# Altium footprint library CONN_USB.PcbLib: 17 footprints (part 1 of 2)
Each footprint in its own frame and in the unit in brackets; x right, y up, seen from the top. Pads: shape width x height; smd on the part's side, far side on the other; paste and mask are expansions set on the pad; w line width, h text height; cw(c..) or ccw(c..) is an arc to the next point about the centre after c.
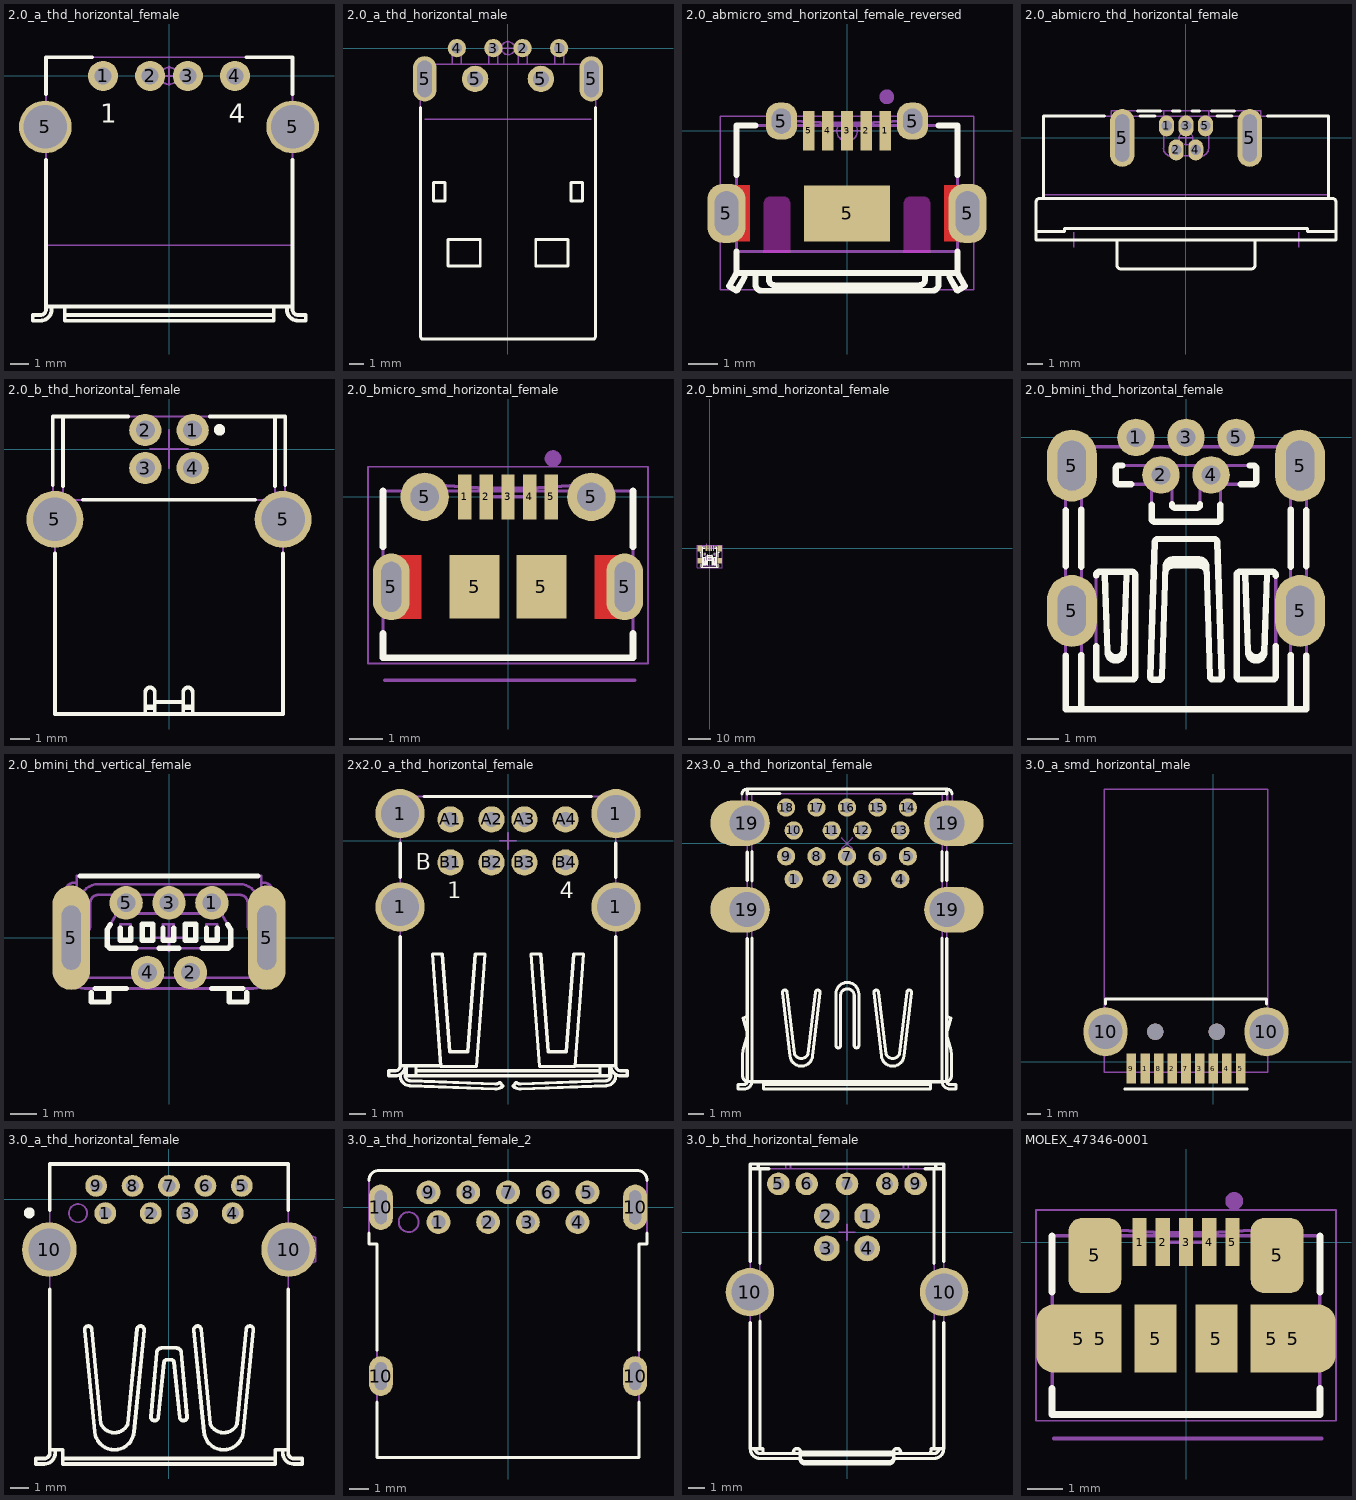
[diagram p0: the footprints below, top view; thin cyan lines are the x and y axes]

## 2.0_a_thd_horizontal_female [mm] "FCI_87520-0010BLF"
height 7.7
pads (6):
  round 1.6 hole 0.9: 1(-3.5,0) 2(-1,0) 3(1,0) 4(3.5,0)
  round 2.8 hole 2.3: 5(-6.57,-2.71) 5(6.57,-2.71)
Top Overlay:
  lines w0.2: -6.537,-12.26 6.563,-12.26 ; -6.537,-4.46 -6.537,-12.41 cw(c-6.837,-12.41) -6.837,-12.71 -7.237,-12.71 -7.237,-13.01 -6.837,-13.01 ccw(c-6.837,-12.41) -6.237,-12.41 -6.237,-12.26 ; -6.537,-0.96 -6.537,0.99 -4.075,0.99 ; -5.537,-12.71 5.563,-12.71 ; -5.537,-12.26 -5.537,-13.01 5.563,-13.01 5.563,-12.26 ; 4.101,0.99 6.563,0.99 6.563,-0.96 ; 6.263,-12.26 6.263,-12.41 ccw(c6.863,-12.41) 6.863,-13.01 7.263,-13.01 7.263,-12.71 6.863,-12.71 cw(c6.863,-12.41) 6.563,-12.41 6.563,-4.46
  text "1" at -3.66,-2.5 h1
  text "4" at 3.173,-2.5 h1
Mechanical 14:
  lines w0.1: -6.537,-12.26 6.563,-12.26 ; -6.237,-12.26 -6.237,-12.41 cw(c-6.837,-12.41) -6.837,-13.01 -7.237,-13.01 -7.237,-12.71 -6.837,-12.71 ccw(c-6.837,-12.41) -6.537,-12.41 -6.537,0.99 6.563,0.99 6.563,-12.41 ccw(c6.863,-12.41) 6.863,-12.71 7.263,-12.71 7.263,-13.01 6.863,-13.01 cw(c6.863,-12.41) 6.263,-12.41 6.263,-12.26 ; -5.537,-12.71 5.563,-12.71 ; -5.537,-12.26 -5.537,-13.01 5.563,-13.01 5.563,-12.26
  text "1" at -3.66,-2.5 h1
  text "4" at 3.173,-2.5 h1
  text ".Designator" at -5.032,-6.827 h1.5
Mechanical 15:
  circle w0.1: c0,0 r0.45
  lines w0.1: -6.537,-9 6.563,-9 ; -0.5,0 0,0 ; 0,-0.5 0,0 ; 0,0.5 0,0 ; 0.5,0 0,0
3D body "FCI_87520-0010BLF.stp": height 7.55, standoff -3.3, extent -7.9,-13.05 7.9,1.11

## 2.0_a_thd_horizontal_male [mm] "MOLEX_48037-0001"
height 4.6
pads (8):
  round 1.25 hole 0.7: 1(3.5,0) 2(1,0) 3(-1,0) 4(-3.5,0)
  oval 1.6x3.1 hole 1 slot 2.5 at 90 deg: 5(-5.7,-2.1) 5(5.7,-2.1)
  round 1.8 hole 1.1: 5(-2.25,-2.1) 5(2.25,-2.1)
Top Overlay:
  lines w0.2: -6,-4.063 -6,-19.727 -5.9,-19.9 5.9,-19.9 6,-19.727 6,-4.063 ; -5.1,-10.45 -5.1,-9.2 -4.3,-9.2 -4.3,-10.45 -5.1,-10.45 ; -4.1,-14.9 -4.1,-13.1 -1.9,-13.1 -1.9,-14.9 -4.1,-14.9 ; 1.9,-14.9 4.1,-14.9 4.1,-13.1 1.9,-13.1 1.9,-14.9 ; 4.3,-10.45 4.3,-9.2 5.1,-9.2 5.1,-10.45 4.3,-10.45
Mechanical 14:
  lines w0.1: -6,-3.1 -6.349,-3.1 -6.349,-1.1 6.349,-1.1 6.349,-3.1 6,-3.1 ; -6,-1.1 -6,-19.727 -5.9,-19.9 5.9,-19.9 6,-19.727 6,-1.1 ; -3.8,-1.11 -3.8,0.125 -3.2,0.125 -3.2,-1.1 ; -1.3,-1.1 -1.3,0.125 -0.7,0.125 -0.7,-1.1 ; 0.7,-1.1 0.7,0.125 1.3,0.125 1.3,-1.1 ; 3.2,-1.1 3.2,0.125 3.8,0.125 3.8,-1.1 ; -5.1,-10.45 -5.1,-9.2 -4.3,-9.2 -4.3,-10.45 -5.1,-10.45 ; -4.1,-14.9 -4.1,-13.1 -1.9,-13.1 -1.9,-14.9 -4.1,-14.9 ; 1.9,-14.9 4.1,-14.9 4.1,-13.1 1.9,-13.1 1.9,-14.9 ; 4.3,-10.45 4.3,-9.2 5.1,-9.2 5.1,-10.45 4.3,-10.45
  text ".Designator" at -4.232,-8.127 h1.5
Mechanical 15:
  circle w0.1: c0,0 r0.45
  lines w0.1: -5.7,-4.85 0,-4.85 5.7,-4.85 ; -0.5,0 0,0 ; 0,-0.5 0,0 ; 0,0.5 0,0 ; 0.5,0 0,0
3D body "MOLEX_48037-0001.stp": height 3.07, standoff -2.81, extent -6.173,-19.9 6.173,0.125

## 2.0_abmicro_smd_horizontal_female_reversed [mm] "HIROSE_ZX62RD-AB-5P8"
height 2.35
pads (10):
  rect 0.4x1.35 smd: 1(1.3,0) 2(0.65,0) 3(0,0) 4(-0.65,0) 5(-1.3,0)
  rrect80% 1.3x2 hole 0.8 slot 1.5 at 90 deg: 5(-4.088,-2.8) 5(4.088,-2.8)
  rrect80% 1.05x1.25 hole 0.65 slot 0.85 at 90 deg: 5(-2.225,0.325) 5(2.225,0.325)
  rect 2.9x1.9 smd: 5(0,-2.8)
Top Layer:
  region: -4.2,-1.85 -4.2,-3.75 -3.3,-3.75 -3.3,-1.85
  region: 4.2,-3.75 4.2,-1.85 3.3,-1.85 3.3,-3.75
Top Overlay:
  lines w0.2: -3.75,-4.1 -3.75,-4.825 cw(c-3.8,-4.825) -3.757,-4.85 -4,-5.272 -3.742,-5.425 -3.497,-5 ccw(c-3.8,-4.825) -3.45,-4.825 ; -3.75,-1.5 -3.75,0.175 -3.1,0.175 ; -3.74,-4.825 3.75,-4.825 ; -3.1,-4.825 -3.1,-5.225 ccw(c-2.9,-5.225) -2.9,-5.425 2.9,-5.425 ccw(c2.9,-5.225) 3.1,-5.225 3.1,-4.825 ; -2.65,-4.825 -2.65,-5.039 ccw(c-2.45,-5.039) -2.45,-5.239 2.45,-5.239 ccw(c2.45,-5.039) 2.65,-5.039 2.65,-4.825 ; 3.1,0.175 3.75,0.175 3.75,-1.5 ; 3.45,-4.825 ccw(c3.8,-4.825) 3.497,-5 3.742,-5.425 4,-5.272 3.757,-4.85 cw(c3.8,-4.825) 3.75,-4.825 ; 3.75,-4.1 3.75,-4.825
Keep-Out Layer:
  board cut-out: 1.95,-4.125 1.95,-2.45 1.95,-2.41 1.98,-2.337 2.037,-2.28 2.11,-2.25 2.15,-2.25 2.6,-2.25 2.64,-2.25 2.713,-2.28 2.77,-2.337 2.8,-2.41 2.8,-2.45 2.8,-4.125
  board cut-out: -2.8,-4.125 -2.8,-2.45 -2.8,-2.41 -2.77,-2.337 -2.713,-2.28 -2.64,-2.25 -2.6,-2.25 -2.15,-2.25 -2.11,-2.25 -2.037,-2.28 -1.98,-2.337 -1.95,-2.41 -1.95,-2.45 -1.95,-4.125
Keep-Out Layer:
  lines w0.05: -2.8,-4.125 -1.95,-4.125 -1.95,-2.45 ccw(c-2.15,-2.45) -2.15,-2.25 -2.6,-2.25 ccw(c-2.6,-2.45) -2.8,-2.45 -2.8,-4.125 ; 1.95,-4.125 1.95,-2.45 cw(c2.15,-2.45) 2.15,-2.25 2.6,-2.25 cw(c2.6,-2.45) 2.8,-2.45 2.8,-4.125 1.95,-4.125
Mechanical 14:
  circle w0.25: c1.35,1.15 r0.125
  lines w0.1: -3.75,-3.225 -4.325,-3.225 -4.325,-2.375 -3.75,-2.375 ; -3.74,-4.825 3.75,-4.825 ; -3.45,-4.825 cw(c-3.8,-4.825) -3.497,-5 -3.742,-5.425 -4,-5.272 -3.757,-4.85 ccw(c-3.8,-4.825) -3.75,-4.825 -3.75,0.175 3.75,0.175 3.75,-4.825 ; -3.1,-4.825 -3.1,-5.225 ccw(c-2.9,-5.225) -2.9,-5.425 2.9,-5.425 ccw(c2.9,-5.225) 3.1,-5.225 3.1,-4.825 ; -2.65,-4.825 -2.65,-5.039 ccw(c-2.45,-5.039) -2.45,-5.239 2.45,-5.239 ccw(c2.45,-5.039) 2.65,-5.039 2.65,-4.825 ; -2.45,0.175 -2.45,0.453 cw(c-2.291,-0.138) -2.3,0.474 -2.15,0.474 cw(c-2.159,-0.138) -2,0.453 -2,0.365 ccw(c-1.81,0.891) -1.845,0.333 -0.9,0.279 -0.9,0.272 ccw(c-0.741,0.862) -0.75,0.251 -0.6,0.251 ccw(c-0.606,0.659) -0.5,0.265 0.5,0.265 ccw(c0.606,0.659) 0.6,0.251 0.75,0.251 ccw(c0.741,0.862) 0.9,0.272 0.9,0.279 1.845,0.333 ccw(c1.81,0.891) 2,0.365 2,0.453 cw(c2.159,-0.138) 2.15,0.474 2.3,0.474 cw(c2.291,-0.138) 2.45,0.453 2.45,0.175 ; 3.45,-4.825 ccw(c3.8,-4.825) 3.497,-5 3.742,-5.425 4,-5.272 3.757,-4.85 cw(c3.8,-4.825) 3.75,-4.825 ; 3.75,-3.225 4.325,-3.225 4.325,-2.375 3.75,-2.375
  text ".Designator" at -2.6,-2.8 h1
Mechanical 15:
  circle w0.05: c0,0 r0.35
  lines w0.05: -0.5,0 0.5,0 ; 0,-0.46 0,0.46 ; -4.3,-5.4 4.3,-5.4 4.3,0.5 -4.3,0.5 -4.3,-5.4
  lines w0.1: -3.75,-4.1 0,-4.1 3.75,-4.1
3D body "HIROSE_ZX62RD-AB-5P8.stp": height 2.78, standoff -0.6, extent -4.325,-5.425 4.325,0.474

## 2.0_abmicro_thd_horizontal_female [mm] "AMPHENOL_MUSB-K152-30"
height 8.5
pads (7):
  oval 1x1.4 hole 0.7: 1(-1.3,0.8) 2(-0.65,-0.8) 3(0,0.8) 4(0.65,-0.8) 5(1.3,0.8)
  oval 1.65x3.85 hole 0.95 slot 3.15 at 90 deg: 5(-4.25,0) 5(4.25,0)
Top Overlay:
  lines w0.2: -10,-6.23 -8.1,-6.23 -8.1,-6.03 8.1,-6.03 8.1,-6.23 10,-6.23 ; -9.499,-4.03 -9.499,1.45 -5.424,1.45 ; -4.6,-6.79 -4.6,-8.48 ccw(c-4.35,-8.48) -4.35,-8.73 4.35,-8.73 ccw(c4.35,-8.48) 4.6,-8.48 4.6,-6.79 ; -3.245,1.8 -1.712,1.8 ; -3.076,1.45 -2.079,1.45 ; -0.888,1.8 -0.412,1.8 ; 0.412,1.8 0.888,1.8 ; 1.712,1.8 3.245,1.8 ; 2.079,1.45 3.076,1.45 ; 5.424,1.45 9.5,1.45 9.499,-4.03 ; -10,-6.79 10,-6.79 10,-4.28 ccw(c9.75,-4.28) 9.75,-4.03 -9.75,-4.03 ccw(c-9.75,-4.28) -10,-4.28 -10,-6.79
Mechanical 14:
  lines w0.1: -10,-6.23 -8.1,-6.23 -8.1,-6.03 8.1,-6.03 8.1,-6.23 10,-6.23 ; -9.499,-4.03 -9.499,1.45 9.5,1.45 9.499,-4.03 ; -4.975,1.45 -4.975,1.8 4.975,1.8 4.975,1.45 ; -4.6,-6.79 -4.6,-8.48 ccw(c-4.35,-8.48) -4.35,-8.73 4.35,-8.73 ccw(c4.35,-8.48) 4.6,-8.48 4.6,-6.79 ; -1.5,1.8 -1.5,-0.7 ccw(c-1,-0.7) -1,-1.2 1,-1.2 ccw(c1,-0.7) 1.5,-0.7 1.5,1.8 ; -10,-6.79 10,-6.79 10,-4.28 ccw(c9.75,-4.28) 9.75,-4.03 -9.75,-4.03 ccw(c-9.75,-4.28) -10,-4.28 -10,-6.79
  text ".Designator" at -5.032,-3.227 h1.5
Mechanical 15:
  circle w0.1: c0,0 r0.45
  lines w0.1: -9.499,-3.78 0,-3.78 9.5,-3.781 ; -7.5,-7.29 -7.5,-6.79 -7.5,-6.29 ; -0.5,0 0,0 ; 0,-0.5 0,0 ; 0,0.5 0,0 ; 0.5,0 0,0 ; 7.5,-7.29 7.5,-6.79 7.5,-6.29
3D body "AMPHENOL_MUSB-K152-30.stp": height 8.5, standoff -2.75, extent -10,-8.73 10,1.8

## 2.0_b_thd_horizontal_female [mm] "TYCO_292304-1"
height 11.5
pads (6):
  round 1.7 hole 1: 1(1.25,1) 2(-1.25,1) 3(-1.25,-1) 4(1.25,-1)
  round 3 hole 2.3: 5(-6.02,-3.71) 5(6.02,-3.71)
Top Overlay:
  circle w0.3: c2.667,1.016 r0.15
  lines w0.2: -6.13,-1.913 -6.13,1.72 -2.147,1.72 ; -6.018,-5.51 -6.018,-13.98 6.018,-13.98 6.018,-5.51 ; -5.6,-1.96 -5.6,1.72 ; -4.544,-2.68 4.544,-2.68 ; -1.25,-13.98 -1.25,-12.832 cw(c-1,-12.83) -0.75,-12.832 -0.75,-13.98 ; -1.25,-13.662 -0.75,-13.662 ; -1.25,-13.568 -0.75,-13.568 ; -0.75,-13.342 0.75,-13.342 ; 0.75,-13.98 0.75,-12.832 cw(c1,-12.83) 1.25,-12.832 1.25,-13.98 ; 0.75,-13.662 1.25,-13.662 ; 0.75,-13.568 1.25,-13.568 ; 2.147,1.72 6.13,1.72 6.13,-1.913 ; 5.6,-1.96 5.6,1.72
Mechanical 14:
  lines w0.1: -6.13,-4.608 -6.13,-4.81 -6.018,-5.057 ; -6.018,-4.619 -7.096,-4.511 ; -6.018,-2.781 -7.096,-2.889 ; -5.6,-2.68 -5.6,1.72 ; -5.6,-2.28 -6.13,-2.28 -6.13,1.72 6.13,1.72 6.13,-2.28 5.6,-2.28 ; -1.25,-13.98 -1.25,-12.832 cw(c-1,-12.83) -0.75,-12.832 -0.75,-13.98 ; -1.25,-13.662 -0.75,-13.662 ; -1.25,-13.568 -0.75,-13.568 ; -0.75,-13.342 0.75,-13.342 ; 0.75,-13.98 0.75,-12.832 cw(c1,-12.83) 1.25,-12.832 1.25,-13.98 ; 0.75,-13.662 1.25,-13.662 ; 0.75,-13.568 1.25,-13.568 ; 5.6,-2.68 5.6,1.72 ; 6.018,-5.057 6.13,-4.81 6.13,-4.608 ; 6.018,-4.619 7.096,-4.511 ; 6.018,-2.781 7.096,-2.889 ; -7.096,-4.511 -7.096,-2.889 ; -7.096,-4.511 -7.162,-4.5 -7.192,-4.486 -7.195,-4.479 -7.195,-2.921 -7.192,-2.914 -7.162,-2.9 -7.096,-2.889 ; 7.096,-4.511 7.096,-2.889 ; 7.096,-4.511 7.162,-4.5 7.192,-4.486 7.195,-4.479 7.195,-2.921 7.192,-2.914 7.162,-2.9 7.096,-2.889 ; -6.018,-13.98 -6.018,-2.68 6.018,-2.68 6.018,-13.98 -6.018,-13.98
  text ".Comment" at -2.3,-10 h0.7
  text ".Designator" at -3.732,-6.627 h1.5
Mechanical 15:
  lines w0.1: -1,0 0,0 ; 0,-1 0,0 ; 0,1 0,0 ; 1,0 0,0
3D body "TYCO_292304-1.stp": height 11.5, standoff -3.93, extent -7.195,-13.98 7.195,1.72

## 2.0_bmicro_smd_horizontal_female [mm] "MOLEX_1050171001"
height 2.35
pads (11):
  rect 0.4x1.35 smd: 1(-1.3,0) 2(-0.65,0) 3(0,0) 4(0.65,0) 5(1.3,0)
  oval 1.1x2 hole 0.6 slot 1.5 at 90 deg: 5(-3.5,-2.7) 5(3.5,-2.7)
  round 1.45 hole 0.85: 5(-2.5,0) 5(2.5,0)
  rect 1.5x1.9 smd: 5(-1,-2.7) 5(1,-2.7)
Top Layer:
  region: 3.5,-3.65 3.5,-1.75 2.6,-1.75 2.6,-3.65
  region: -3.5,-3.65 -3.5,-1.75 -2.6,-1.75 -2.6,-3.65
Top Overlay:
  lines w0.2: -3.75,-4.825 -3.75,-4.1 ; -3.75,-1.5 -3.75,0.175 ; -3.74,-4.825 3.75,-4.825 3.75,-4.1 ; 3.75,-1.5 3.75,0.175
Mechanical 14:
  circle w0.25: c1.35,1.15 r0.125
  lines w0.1: -3.75,-4.825 -3.75,0.175 3.75,0.175 3.75,-4.825 -3.74,-4.825 ; -2.45,0.175 -2.45,0.453 cw(c-2.291,-0.138) -2.3,0.474 -2.15,0.474 cw(c-2.159,-0.138) -2,0.453 -2,0.365 ccw(c-1.81,0.891) -1.845,0.333 -0.9,0.279 -0.9,0.272 ccw(c-0.741,0.862) -0.75,0.251 -0.6,0.251 ccw(c-0.606,0.659) -0.5,0.265 0.5,0.265 ccw(c0.606,0.659) 0.6,0.251 0.75,0.251 ccw(c0.741,0.862) 0.9,0.272 0.9,0.279 1.845,0.333 ccw(c1.81,0.891) 2,0.365 2,0.453 cw(c2.159,-0.138) 2.15,0.474 2.3,0.474 cw(c2.291,-0.138) 2.45,0.453 2.45,0.175
  text ".Designator" at -1,-2.4 h1
Mechanical 15:
  lines w0.05: -4.2,-5 -4.2,0.9 4.2,0.9 4.2,-5 -4.2,-5
  lines w0.1: -3.7,-5.5 3.8,-5.5 ; -0.5,0 0,0 ; 0,-0.5 0,0 ; 0,0.5 0,0 ; 0.5,0 0,0
3D body "1050171001.stp": height 2.68, standoff -0.63, extent -3.75,-4.8 3.75,0.2

## 2.0_bmini_smd_horizontal_female [mm] "TYCO_1734035-1"
height 3.95
pads (11):
  rect 0.5x2.3 smd: 1(-1.575,0) 2(-0.8,0) 3(0,0) 4(0.8,0) 5(1.6,0)
  rect 2x2.5 smd: 5(-4.45,-5.6) 5(-4.45,-0.1) 5(4.45,-5.6) 5(4.45,-0.1)
  round 0.5 hole 0.9 unplated mask+0.2: MTG1(-2.2,-2.6) MTG2(2.2,-2.6)
Top Overlay:
  rectangle: -4.445,-2.007 -3.759,-1.549
  region: 4.445,-1.549 3.759,-1.549 3.759,-2.007 4.445,-2.007
  lines w0.2: -3.85,-7.15 -3.85,-8.5 3.85,-8.5 3.85,-7.15 ; -3.85,-4.05 -3.85,-1.65 ; -3.15,-8.5 -3.15,0.7 -2.15,0.7 ; -3.15,0 -2.15,0 ; -2.65,-6.965 -2.65,-4.05 ; -2.65,-6.591 -2.05,-6.591 ; -2.65,-5.968 -2.05,-5.968 ; -2.633,-7.45 -2.633,-6.965 -2.05,-6.965 -2.05,-4.05 ; -0.895,-5.382 0.895,-5.382 ; -0.831,-4.118 0.831,-4.118 ; 2.05,-6.591 2.65,-6.591 ; 2.05,-5.968 2.65,-5.968 ; 2.05,-4.05 2.05,-6.965 2.633,-6.965 2.633,-7.45 ; 2.15,0 3.15,0 ; 2.15,0.7 3.15,0.7 3.15,-8.5 ; 2.65,-6.965 2.65,-4.05 ; 3.85,-4.05 3.85,-1.65 ; -2.95,-7.25 ccw(c-2.75,-7.25) -2.75,-7.45 -1.95,-7.45 ccw(c-1.95,-7.25) -1.75,-7.25 -1.75,-4.2 ccw(c-1.9,-4.2) -1.9,-4.05 -2.8,-4.05 ccw(c-2.8,-4.2) -2.95,-4.2 -2.95,-7.25 ; -1.293,-7.292 ccw(c-1.143,-7.3) -1.143,-7.45 -1,-7.45 -0.796,-3.412 0.796,-3.412 1,-7.45 1.143,-7.45 ccw(c1.143,-7.3) 1.293,-7.292 1.092,-3.335 ccw(c0.792,-3.35) 0.792,-3.05 -0.792,-3.05 ccw(c-0.792,-3.35) -1.092,-3.335 -1.293,-7.292 ; 1.75,-7.25 ccw(c1.95,-7.25) 1.95,-7.45 2.75,-7.45 ccw(c2.75,-7.25) 2.95,-7.25 2.95,-4.2 ccw(c2.8,-4.2) 2.8,-4.05 1.9,-4.05 ccw(c1.9,-4.2) 1.75,-4.2 1.75,-7.25
  lines w0.3: -2.261,-7.391 -2.261,-7.061 ; 2.261,-7.391 2.261,-7.061
  lines w0.35: -0.787,-4.736 0.787,-4.736
Mechanical 14:
  circle w0.1: c-1.525,1.7 r0.125
  lines w0.1: -4.95,0.7 4.95,0.7 ; -4.35,-1.7 -3.85,-1.7 ; -4.35,0 -4.35,-1.9 -3.85,-1.9 ; -3.15,-8.5 -3.15,0.7 ccw(c-3.15,0) -3.85,0 ; -2.933,-7.326 -2.933,-6.7 ; -2.65,-6.591 -2.05,-6.591 ; -2.65,-5.968 -2.05,-5.968 ; -2.65,-4.05 -2.65,-6.965 -2.05,-6.965 -2.05,-4.05 ; -2.633,-7.45 -2.633,-6.965 ; -2.3,-7.45 -2.3,-6.965 ; -2.213,-7.45 -2.213,-6.965 ; -1,-7.45 -1.143,-7.45 cw(c-1.143,-7.3) -1.293,-7.292 -1.092,-3.335 cw(c-0.792,-3.35) -0.792,-3.05 0.792,-3.05 ; -0.895,-5.382 0.895,-5.382 ; -0.868,-4.84 0.868,-4.84 ; -0.859,-4.66 0.859,-4.66 ; 0.796,-3.412 -0.796,-3.412 ccw(c63.84,-7.028) -0.831,-4.118 0.831,-4.118 ; 2.05,-6.591 2.65,-6.591 ; 2.05,-5.968 2.65,-5.968 ; 2.05,-4.05 2.05,-6.965 2.65,-6.965 2.65,-4.05 ; 2.213,-7.45 2.213,-6.965 ; 2.3,-7.45 2.3,-6.965 ; 2.633,-7.45 2.633,-6.965 ; 2.933,-7.326 2.933,-6.7 ; 3.15,-8.5 3.15,0.7 cw(c3.15,0) 3.85,0 ; 4.35,-1.9 4.35,0 ; -3.85,0 -3.85,-8.5 3.85,-8.5 3.85,0 ; -3.85,0 3.85,0 ; -2.95,-7.25 ccw(c-2.75,-7.25) -2.75,-7.45 -1.95,-7.45 ccw(c-1.95,-7.25) -1.75,-7.25 -1.75,-4.2 ccw(c-1.9,-4.2) -1.9,-4.05 -2.8,-4.05 ccw(c-2.8,-4.2) -2.95,-4.2 -2.95,-7.25 ; 1.75,-7.25 ccw(c1.95,-7.25) 1.95,-7.45 2.75,-7.45 ccw(c2.75,-7.25) 2.95,-7.25 2.95,-4.2 ccw(c2.8,-4.2) 2.8,-4.05 1.9,-4.05 ccw(c1.9,-4.2) 1.75,-4.2 1.75,-7.25
  text ".Comment" at -2.3,-5.3 h0.7
  text ".Designator" at -2.8,-2.2 h1
Mechanical 15:
  circle w0.1: c0,0 r0.2
  circle w0.1: c-2.2,-2.6 r0.45
  circle w0.1: c2.2,-2.6 r0.45
  lines w0.05: -5.7,-8.75 5.7,-8.75 5.7,1.4 -5.7,1.4 -5.7,-8.75
  lines w0.1: -4.45,-7.85 0,-7.85 4.45,-7.85 ; -2.7,-2.6 -2.2,-2.6 ; -2.2,-3.1 -2.2,-2.6 ; -2.2,-2.1 -2.2,-2.6 ; -1.7,-2.6 -2.2,-2.6 ; -0.5,0 0,0 ; 0,-0.5 0,0 ; 0,0.5 0,0 ; 0.5,0 0,0 ; 1.7,-2.6 2.2,-2.6 ; 2.2,-3.1 2.2,-2.6 ; 2.2,-2.1 2.2,-2.6 ; 2.7,-2.6 2.2,-2.6
3D body "TYCO_1734035-1.stp": height 4.14, standoff -0.95, extent -4.95,-8.5 4.95,0.7

## 2.0_bmini_thd_horizontal_female [mm] "WURTH_651005136521"
height 3.9
pads (9):
  round 1.2 hole 0.6: 1(-1.6,0) 2(-0.8,-1.2) 3(0,0) 4(0.8,-1.2) 5(1.6,0)
  oval 1.6x2.3 hole 0.9 slot 1.6 at 90 deg: 5(-3.65,-5.55) 5(-3.65,-0.9) 5(3.65,-5.55) 5(3.65,-0.9)
Top Overlay:
  lines w0.2: -3.85,-6.982 -3.85,-8.7 3.85,-8.7 3.85,-6.982 ; -3.85,-4.118 -3.85,-2.332 ; -3.35,-8.7 -3.35,-6.958 ; -3.35,-4.142 -3.35,-2.308 ; -2.875,-6.681 -2.875,-7.65 ccw(c-2.775,-7.65) -2.775,-7.75 -1.725,-7.75 ccw(c-1.725,-7.65) -1.625,-7.65 -1.625,-4.4 ccw(c-1.725,-4.4) -1.725,-4.3 -2.775,-4.3 ccw(c-2.775,-4.4) -2.875,-4.4 -2.875,-4.419 ; -2.694,-4.3 cw(c-2.694,-4.396) -2.597,-4.396 -2.509,-6.881 ccw(c-2.25,-6.881) -1.991,-6.881 -1.904,-4.396 ; -2.513,-6.771 ccw(c-2.25,-6.769) -1.987,-6.769 ; -2.036,-0.9 -2.15,-0.9 ccw(c-2.15,-1) -2.25,-1 -2.25,-1.4 ccw(c-2.15,-1.4) -2.15,-1.5 -1.754,-1.5 ; -1.904,-4.403 cw(c-1.801,-4.403) -1.801,-4.3 ; -1.1,-2.154 -1.1,-2.6 ccw(c-1,-2.6) -1,-2.7 1,-2.7 ccw(c1,-2.6) 1.1,-2.6 1.1,-2.154 ; -0.661,-4.328 cw(c-0.425,-4.336) -0.425,-4.1 0.425,-4.1 cw(c0.425,-4.336) 0.661,-4.328 ; -0.45,-2.137 -0.45,-2.15 ccw(c-0.35,-2.15) -0.35,-2.25 0.35,-2.25 ccw(c0.35,-2.15) 0.45,-2.15 0.45,-2.137 ; 1.754,-1.5 2.15,-1.5 ccw(c2.15,-1.4) 2.25,-1.4 2.25,-1 ccw(c2.15,-1) 2.15,-0.9 2.036,-0.9 ; 1.802,-4.3 cw(c1.802,-4.396) 1.898,-4.396 1.987,-6.881 ccw(c2.246,-6.881) 2.504,-6.881 2.592,-4.396 ; 1.983,-6.771 ccw(c2.246,-6.769) 2.508,-6.769 ; 2.591,-4.403 cw(c2.695,-4.403) 2.695,-4.3 ; 2.871,-6.676 2.871,-7.65 cw(c2.771,-7.65) 2.771,-7.75 1.721,-7.75 cw(c1.721,-7.65) 1.621,-7.65 1.621,-4.4 cw(c1.721,-4.4) 1.721,-4.3 2.771,-4.3 cw(c2.771,-4.4) 2.871,-4.4 2.871,-4.424 ; 3.35,-8.7 3.35,-6.958 ; 3.35,-4.142 3.35,-2.308 ; 3.85,-4.118 3.85,-2.332 ; -1.147,-7.653 ccw(c-1.047,-7.657) -1.047,-7.757 -0.872,-7.757 ccw(c-0.872,-7.657) -0.772,-7.66 -0.654,-4.129 cw(c-0.418,-4.137) -0.418,-3.901 0.418,-3.901 cw(c0.418,-4.137) 0.654,-4.129 0.772,-7.653 ccw(c0.872,-7.65) 0.872,-7.75 1.047,-7.75 ccw(c1.047,-7.65) 1.147,-7.647 0.999,-3.347 ccw(c0.9,-3.35) 0.9,-3.25 -0.9,-3.25 ccw(c-0.9,-3.35) -0.999,-3.347 -1.147,-7.653
Mechanical 14:
  lines w0.1: -3.85,-5.955 cw(c-3.675,-5.595) -4.075,-5.595 -4.075,-5.505 cw(c-3.675,-5.505) -3.85,-5.145 ; -3.85,-1.305 cw(c-3.675,-0.945) -4.075,-0.945 -4.075,-0.855 cw(c-3.675,-0.855) -3.85,-0.495 ; -3.35,-8.7 -3.35,-0.3 ; -2.694,-4.3 cw(c-2.694,-4.396) -2.597,-4.396 -2.509,-6.881 ccw(c-2.25,-6.881) -1.991,-6.881 -1.904,-4.396 ; -2.513,-6.771 ccw(c-2.25,-6.769) -1.987,-6.769 ; -1.904,-4.403 cw(c-1.801,-4.403) -1.801,-4.3 ; -1.8,-0.3 -1.8,0.125 -1.4,0.125 -1.4,-0.3 ; -0.661,-4.328 cw(c-0.425,-4.336) -0.425,-4.1 0.425,-4.1 cw(c0.425,-4.336) 0.661,-4.328 ; -0.55,-0.9 cw(c-0.55,-1) -0.45,-1 -0.45,-2.15 ccw(c-0.35,-2.15) -0.35,-2.25 0.35,-2.25 ccw(c0.35,-2.15) 0.45,-2.15 0.45,-1 cw(c0.55,-1) 0.55,-0.9 ; -0.2,-0.3 -0.2,0.125 0.2,0.125 0.2,-0.3 ; 1.4,-0.3 1.4,0.125 1.8,0.125 1.8,-0.3 ; 1.802,-4.3 cw(c1.802,-4.396) 1.898,-4.396 1.987,-6.881 ccw(c2.246,-6.881) 2.504,-6.881 2.592,-4.396 ; 1.983,-6.771 ccw(c2.246,-6.769) 2.508,-6.769 ; 2.591,-4.403 cw(c2.695,-4.403) 2.695,-4.3 ; 3.35,-8.7 3.35,-0.3 ; 3.85,-5.955 ccw(c3.675,-5.595) 4.075,-5.595 4.075,-5.505 ccw(c3.675,-5.505) 3.85,-5.145 ; 3.85,-1.305 ccw(c3.675,-0.945) 4.075,-0.945 4.075,-0.855 ccw(c3.675,-0.855) 3.85,-0.495 ; -3.85,-8.7 -3.85,-0.3 3.85,-0.3 3.85,-8.7 -3.85,-8.7 ; -2.875,-7.65 ccw(c-2.775,-7.65) -2.775,-7.75 -1.725,-7.75 ccw(c-1.725,-7.65) -1.625,-7.65 -1.625,-4.4 ccw(c-1.725,-4.4) -1.725,-4.3 -2.775,-4.3 ccw(c-2.775,-4.4) -2.875,-4.4 -2.875,-7.65 ; -2.25,-1.4 ccw(c-2.15,-1.4) -2.15,-1.5 -1.2,-1.5 cw(c-1.2,-1.6) -1.1,-1.6 -1.1,-2.6 ccw(c-1,-2.6) -1,-2.7 1,-2.7 ccw(c1,-2.6) 1.1,-2.6 1.1,-1.6 cw(c1.2,-1.6) 1.2,-1.5 2.15,-1.5 ccw(c2.15,-1.4) 2.25,-1.4 2.25,-1 ccw(c2.15,-1) 2.15,-0.9 -2.15,-0.9 ccw(c-2.15,-1) -2.25,-1 -2.25,-1.4 ; -1.147,-7.653 ccw(c-1.047,-7.657) -1.047,-7.757 -0.872,-7.757 ccw(c-0.872,-7.657) -0.772,-7.66 -0.654,-4.129 cw(c-0.418,-4.137) -0.418,-3.901 0.418,-3.901 cw(c0.418,-4.137) 0.654,-4.129 0.772,-7.653 ccw(c0.872,-7.65) 0.872,-7.75 1.047,-7.75 ccw(c1.047,-7.65) 1.147,-7.647 0.999,-3.347 ccw(c0.9,-3.35) 0.9,-3.25 -0.9,-3.25 ccw(c-0.9,-3.35) -0.999,-3.347 -1.147,-7.653 ; 1.621,-7.65 ccw(c1.721,-7.65) 1.721,-7.75 2.771,-7.75 ccw(c2.771,-7.65) 2.871,-7.65 2.871,-4.4 ccw(c2.771,-4.4) 2.771,-4.3 1.721,-4.3 ccw(c1.721,-4.4) 1.621,-4.4 1.621,-7.65
  text ".Comment" at -2.2,-4.2 h0.7
  text ".Designator" at -2.6,-9.8 h1
Mechanical 15:
  lines w0.1: -0.5,0 0,0 ; 0,-0.5 0,0 ; 0,0.5 0,0 ; 0.5,0 0,0
3D body "WURTH_651005136521.stp": height 3.9, standoff -2.6, extent -4.075,-8.7 4.075,0.125

## 2.0_bmini_thd_vertical_female [mm] "MOLEX_500075-1517"
height 7.7
pads (7):
  round 1.25 hole 0.7: 1(1.6,1.3) 2(0.8,-1.3) 3(0,1.3) 4(-0.8,-1.3) 5(-1.6,1.3)
  oval 1.4x3.9 hole 0.7 slot 2.4 at 90 deg: 5(-3.65,0) 5(3.65,0)
Top Overlay:
  lines w0.2: -3.322,2.3 3.322,2.3 ; -2.9,-2.055 -2.9,-2.4 -2.25,-2.4 -2.25,-1.9 ; -2.763,-1.9 -1.6,-1.9 ; -2.189,0.492 -2.3,0.3 -2.3,-0.3 -2.2,-0.4 -1.236,-0.4 ; -1.825,0.35 -1.825,-0.1 -1.425,-0.1 -1.425,0.35 ; -0.364,-0.4 0.364,-0.4 ; -0.225,0.35 -0.225,-0.1 0.175,-0.1 0.175,0.35 ; 1.236,-0.4 2.2,-0.4 ; 1.4,0.35 1.4,-0.1 1.8,-0.1 1.8,0.35 ; 1.6,-1.9 2.763,-1.9 ; 2.189,0.492 2.3,0.3 2.3,-0.3 ; 2.25,-1.9 2.25,-2.4 2.9,-2.4 2.9,-2.055 ; 2.2,-0.4 2.3,-0.3 ; 2.2,-0.4 2.3,-0.3 ; -1,-0.1 -1,0.5 -0.6,0.5 -0.6,-0.1 -1,-0.1 ; 0.6,-0.1 0.6,0.5 1,0.5 1,-0.1 0.6,-0.1
Mechanical 14:
  lines w0.1: -3.45,0.288 -3.45,2.3 3.45,2.3 3.45,0.288 ; -3.45,2.05 -3.55,2.05 ccw(c-3.55,1.75) -3.85,1.75 -3.85,-0.403 ; -2.9,-1.9 -2.9,-2.4 -2.25,-2.4 -2.25,-1.9 ; 2.25,-1.9 2.25,-2.4 2.9,-2.4 2.9,-1.9 ; 3.45,2.05 3.55,2.05 cw(c3.55,1.75) 3.85,1.75 3.85,-0.403 ; -3.85,-0.403 cw(c-3.15,-0.403) -3.647,0.089 -3.422,0.317 ccw(c-3.635,0.528) -3.335,0.528 -3.335,1.3 cw(c-2.635,1.3) -2.635,2 2.635,2 cw(c2.635,1.3) 3.335,1.3 3.335,0.528 ccw(c3.635,0.528) 3.422,0.317 3.647,0.089 cw(c3.15,-0.403) 3.85,-0.403 ; -3.85,-0.403 -3.85,-1.2 ccw(c-3.15,-1.2) -3.15,-1.9 3.15,-1.9 ccw(c3.15,-1.2) 3.85,-1.2 3.85,-0.403 ; 2.2,-0.4 2.3,-0.3 ; 2.2,-0.4 -2.2,-0.4 -2.3,-0.3 -2.3,0.3 -1.838,1.1 -1.318,1.1 -1.118,0.9 1.118,0.9 1.318,1.1 1.838,1.1 2.3,0.3 2.3,-0.3 ; 2.2,-0.4 2.3,-0.3 ; -3.45,-1.2 ccw(c-3.15,-1.2) -3.15,-1.5 3.15,-1.5 ccw(c3.15,-1.2) 3.45,-1.2 3.45,-0.403 ccw(c3.15,-0.403) 3.363,-0.192 3.138,0.035 cw(c3.635,0.528) 2.935,0.528 2.935,1.3 ccw(c2.635,1.3) 2.635,1.6 -2.635,1.6 ccw(c-2.635,1.3) -2.935,1.3 -2.935,0.528 cw(c-3.635,0.528) -3.138,0.035 -3.363,-0.192 ccw(c-3.15,-0.403) -3.45,-0.403 -3.45,-1.2 ; -1.825,-0.1 -1.825,0.5 -1.425,0.5 -1.425,-0.1 -1.825,-0.1 ; -1,-0.1 -1,0.5 -0.6,0.5 -0.6,-0.1 -1,-0.1 ; -0.225,-0.1 -0.225,0.5 0.175,0.5 0.175,-0.1 -0.225,-0.1 ; 0.6,-0.1 0.6,0.5 1,0.5 1,-0.1 0.6,-0.1 ; 1.4,-0.1 1.4,0.5 1.8,0.5 1.8,-0.1 1.4,-0.1
  text ".Designator" at -2.4,2.7 h1
  text ".Comment" at -2.6,-3.1 h0.7
Mechanical 15:
  lines w0.1: -0.5,0 0,0 ; 0,-0.5 0,0 ; 0,0.5 0,0 ; 0.5,0 0,0
3D body "MOLEX_500075-1517.stp": height 7.7, standoff -2.1, extent -3.85,-2.4 3.85,2.3

## 2x2.0_a_thd_horizontal_female [mm] "FCI_72309-8034BLF"
height 15.5
pads (12):
  round 3 hole 2.3: 1(-6.57,-4.02) 1(-6.57,1.66) 1(6.57,-4.02) 1(6.57,1.66)
  round 1.6 hole 0.9: A1(-3.5,1.31) A2(-1,1.31) A3(1,1.31) A4(3.5,1.31) B1(-3.5,-1.31) B2(-1,-1.31) B3(1,-1.31) B4(3.5,-1.31)
Top Overlay:
  lines w0.2: -6.555,-14.214 -6.555,-14.3 ccw(c-5.95,-14.3) -5.973,-14.905 -0.78,-15.1 ccw(c-0.755,-14.433) -0.305,-14.925 -0.511,-14.7 cw(c-0.755,-14.433) -0.769,-14.795 -5.961,-14.6 cw(c-5.95,-14.3) -6.25,-14.3 -6.25,-13.68 cw(c-6.87,-13.68) -6.87,-14.3 -7.25,-14.301 -7.25,-13.995 -6.87,-13.995 ccw(c-6.87,-13.68) -6.555,-13.68 ; -6.555,-5.82 -6.555,-13.68 ; -6.555,-2.22 -6.555,-0.14 ; -6.2,-13.68 -6.2,-14.3 6.2,-14.3 6.2,-13.68 ; -5.6,-14.3 -5.6,-13.68 ; -5.6,-13.995 5.6,-13.995 ; -5.102,2.701 5.086,2.7 ; -4.094,-13.68 -6.555,-13.68 ; -4.085,-13.724 -4.602,-6.88 -4,-6.88 -3.55,-12.84 -2.45,-12.84 -2,-6.88 -1.398,-6.88 -1.915,-13.73 -4.085,-13.73 ; 0.755,-14.795 5.961,-14.6 ccw(c5.95,-14.3) 6.25,-14.3 6.25,-13.68 ccw(c6.87,-13.68) 6.87,-14.3 7.25,-14.3 7.25,-13.995 6.87,-13.995 cw(c6.87,-13.68) 6.555,-13.68 ; 0.769,-14.795 cw(c0.755,-14.433) 0.511,-14.7 0.305,-14.925 ccw(c0.755,-14.433) 0.78,-15.1 5.973,-14.905 ccw(c5.95,-14.3) 6.555,-14.3 6.555,-14.214 ; 1.915,-13.73 4.085,-13.73 4.602,-6.88 4,-6.88 3.55,-12.84 2.45,-12.84 2,-6.88 1.398,-6.88 1.915,-13.724 ; 4.088,-13.68 6.555,-13.68 ; 5.6,-14.3 5.6,-13.68 ; 6.555,-5.82 6.555,-13.68 ; 6.555,-2.22 6.555,-0.14
  text "B" at -5.613,-1.75 h1
  text "1" at -3.685,-3.5 h1
  text "4" at 3.148,-3.5 h1
Mechanical 14:
  lines w0.1: -6.555,-14.214 -6.555,-14.3 ccw(c-5.95,-14.3) -5.973,-14.905 -0.78,-15.1 ccw(c-0.755,-14.433) -0.305,-14.925 -0.511,-14.7 cw(c-0.755,-14.433) -0.769,-14.795 -5.961,-14.6 cw(c-5.95,-14.3) -6.25,-14.3 -6.25,-13.68 cw(c-6.87,-13.68) -6.87,-14.3 -7.25,-14.301 -7.25,-13.995 -6.87,-13.995 ccw(c-6.87,-13.68) -6.555,-13.68 ; -6.555,1 -7.5,1 -7.5,2 -6.555,2 ; -6.555,2.701 6.555,2.7 ; -6.25,2.7 -6.25,2.918 -6.555,2.918 -6.555,-13.68 ; -6.2,-13.68 -6.2,-14.3 6.2,-14.3 6.2,-13.68 ; -5.6,-14.3 -5.6,-13.68 ; -5.6,-13.995 5.6,-13.995 ; -4.094,-13.68 -6.555,-13.68 ; -4.085,-13.724 -4.602,-6.88 -4,-6.88 -3.55,-12.84 -2.45,-12.84 -2,-6.88 -1.398,-6.88 -1.915,-13.73 -4.085,-13.73 ; 0.755,-14.795 5.961,-14.6 ccw(c5.95,-14.3) 6.25,-14.3 6.25,-13.68 ccw(c6.87,-13.68) 6.87,-14.3 7.25,-14.3 7.25,-13.995 6.87,-13.995 cw(c6.87,-13.68) 6.555,-13.68 ; 0.769,-14.795 cw(c0.755,-14.433) 0.511,-14.7 0.305,-14.925 ccw(c0.755,-14.433) 0.78,-15.1 5.973,-14.905 ccw(c5.95,-14.3) 6.555,-14.3 6.555,-14.214 ; 1.915,-13.73 4.085,-13.73 4.602,-6.88 4,-6.88 3.55,-12.84 2.45,-12.84 2,-6.88 1.398,-6.88 1.915,-13.724 ; 4.088,-13.68 6.555,-13.68 ; 5.6,-14.3 5.6,-13.68 ; 6.25,2.7 6.25,2.918 6.555,2.918 6.555,-13.68 ; 6.555,1 7.5,1 7.5,2 6.555,2
  text ".Comment" at -2.7,-9.8 h0.7
  text "B" at -5.613,-1.75 h1
  text "1" at -3.685,-3.5 h1
  text "4" at 3.148,-3.5 h1
  text ".Designator" at -3.132,-5.827 h1.5
Mechanical 15:
  lines w0.1: -0.5,0 0,0 ; 0,-0.5 0,0 ; 0,0.5 0,0 ; 0.5,0 0,0
3D body "FCI_72309-8034BLF.stp": height 16.19, standoff -2.8, extent -7.5,-15.1 7.5,2.918

## 2x3.0_a_thd_horizontal_female [mm] "WURTH_692141030100"
height 16.11
pads (22):
  round 1.2 hole 0.7: 1(-3.5,-2.35) 2(-1,-2.35) 3(1,-2.35) 4(3.5,-2.35) 5(4,-0.85) 6(2,-0.85) 7(0,-0.85) 8(-2,-0.85) 9(-4,-0.85) 10(-3.5,0.85) 11(-1,0.85) 12(1,0.85) 13(3.5,0.85) 14(4,2.35) 15(2,2.35) 16(0,2.35) 17(-2,2.35) 18(-4,2.35)
  oval 3.9x3 hole 2.3 copper offset -0.45,0: 19(-6.57,-4.35) 19(-6.57,1.33)
  oval 3.9x3 hole 2.3 copper offset 0.45,0: 19(6.57,-4.35) 19(6.57,1.33)
Top Overlay:
  lines w0.2: -6.9,3.23 cw(c-6.55,3.22) -6.55,3.57 ; -6.553,-15.666 cw(c-6.45,-15.28) -6.85,-15.28 -6.85,-13.78 cw(c-6.05,-13.78) -6.823,-13.575 -6.55,-12.544 ; -6.55,-12.49 -6.839,-11.461 -6.55,-11.38 ; -6.55,-6.25 -6.55,-15.63 ; -6.55,-2.45 -6.55,-0.57 ; -6.55,3.23 -6.55,3.57 ; -6.55,3.27 -4.392,3.27 ; -6.253,-15.68 -5.475,-15.68 ; -6.25,-6.223 -6.25,-15.63 cw(c-6.75,-15.63) -6.75,-16.13 -7.15,-16.13 -7.15,-15.83 -6.75,-15.83 ccw(c-6.75,-15.63) -6.55,-15.63 ; -6.25,-2.477 -6.25,-0.543 ; -5.475,-15.83 5.475,-15.83 ; -5.475,-15.63 -5.475,-16.13 5.475,-16.13 5.475,-15.634 ; 4.392,3.27 6.55,3.27 ; 5.475,-15.68 6.253,-15.68 ; 6.25,-6.223 6.25,-15.63 ccw(c6.75,-15.63) 6.762,-16.13 7.15,-16.13 7.15,-15.83 6.75,-15.83 cw(c6.75,-15.63) 6.55,-15.63 ; 6.25,-2.477 6.25,-0.543 ; 6.55,-12.544 6.823,-13.575 cw(c6.05,-13.78) 6.85,-13.78 6.85,-15.28 cw(c6.45,-15.28) 6.553,-15.666 ; 6.55,-12.49 6.839,-11.461 6.55,-11.381 ; 6.55,-6.25 6.55,-15.63 ; 6.55,-2.45 6.55,-0.57 ; 6.55,3.23 6.55,3.57 ; 6.9,3.23 ccw(c6.55,3.22) 6.55,3.57 ; -6.55,-15.63 6.55,-15.63 ; -6.55,3.57 6.55,3.57 ; -4.231,-9.797 cw(c-4.083,-9.779) -3.935,-9.763 -3.449,-13.83 ccw(c-3,-13.636) -2.551,-13.83 -2.065,-9.763 cw(c-1.917,-9.779) -1.769,-9.797 -2.255,-13.967 cw(c-3,-13.88) -3.745,-13.967 -4.231,-9.797 ; -0.725,-13.28 ccw(c-0.575,-13.28) -0.425,-13.28 -0.425,-9.947 cw(c0.025,-10.008) 0.475,-9.947 0.475,-13.28 ccw(c0.625,-13.28) 0.775,-13.28 0.775,-9.88 ccw(c0.025,-9.88) -0.725,-9.88 -0.725,-13.28 ; 1.769,-9.797 cw(c1.917,-9.779) 2.065,-9.763 2.551,-13.83 ccw(c3,-13.636) 3.449,-13.83 3.935,-9.763 cw(c4.083,-9.779) 4.231,-9.797 3.745,-13.967 cw(c3,-13.88) 2.255,-13.967 1.769,-9.797
Mechanical 14:
  lines w0.1: -6.9,0.41 -7.697,0.593 -7.793,0.616 -7.793,2.044 -7.697,2.067 -6.9,2.25 ; -6.553,-15.666 cw(c-6.45,-15.28) -6.85,-15.28 -6.85,-13.78 cw(c-6.05,-13.78) -6.823,-13.575 -6.55,-12.544 ; -6.55,-12.49 -6.839,-11.461 -6.55,-11.38 ; -6.55,-5.35 -6.638,-5.331 -7.697,-5.087 -7.793,-5.064 -7.793,-3.636 -7.697,-3.613 -6.638,-3.369 -6.55,-3.35 ; -6.253,-15.68 -5.475,-15.68 ; -6.25,3.27 -6.25,-15.63 cw(c-6.75,-15.63) -6.75,-16.13 -7.15,-16.13 -7.15,-15.83 -6.75,-15.83 ccw(c-6.75,-15.63) -6.55,-15.63 ; -5.475,-15.83 5.475,-15.83 ; -5.475,-15.63 -5.475,-16.13 5.475,-16.13 5.475,-15.634 ; 5.475,-15.68 6.253,-15.68 ; 6.25,3.27 6.25,-15.63 ccw(c6.75,-15.63) 6.762,-16.13 7.15,-16.13 7.15,-15.83 6.75,-15.83 cw(c6.75,-15.63) 6.55,-15.63 ; 6.55,-12.544 6.823,-13.575 cw(c6.05,-13.78) 6.85,-13.78 6.85,-15.28 cw(c6.45,-15.28) 6.553,-15.666 ; 6.55,-12.49 6.839,-11.461 6.55,-11.381 ; 6.9,0.409 7.697,0.593 7.793,0.616 7.793,2.044 7.697,2.067 6.9,2.251 ; -6.55,-15.63 6.55,-15.63 ; -6.55,-15.63 -6.55,3.57 ; -6.55,3.57 ccw(c-6.55,3.22) -6.9,3.22 -6.9,0.17 -6.6,0.17 -6.6,3.22 cw(c-6.55,3.22) -6.55,3.27 6.55,3.27 cw(c6.55,3.22) 6.6,3.22 6.6,0.17 6.9,0.17 6.9,3.22 ccw(c6.55,3.22) 6.55,3.57 ; -6.55,3.57 6.55,3.57 ; 6.55,-15.63 6.55,3.57 ; -4.231,-9.797 cw(c-4.083,-9.779) -3.935,-9.763 -3.449,-13.83 ccw(c-3,-13.636) -2.551,-13.83 -2.065,-9.763 cw(c-1.917,-9.779) -1.769,-9.797 -2.255,-13.967 cw(c-3,-13.88) -3.745,-13.967 -4.231,-9.797 ; -0.725,-13.28 ccw(c-0.575,-13.28) -0.425,-13.28 -0.425,-9.947 cw(c0.025,-10.008) 0.475,-9.947 0.475,-13.28 ccw(c0.625,-13.28) 0.775,-13.28 0.775,-9.88 ccw(c0.025,-9.88) -0.725,-9.88 -0.725,-13.28 ; 1.769,-9.797 cw(c1.917,-9.779) 2.065,-9.763 2.551,-13.83 ccw(c3,-13.636) 3.449,-13.83 3.935,-9.763 cw(c4.083,-9.779) 4.231,-9.797 3.745,-13.967 cw(c3,-13.88) 2.255,-13.967 1.769,-9.797
  text ".Comment" at -2.2,-11.3 h0.7
  text ".Designator" at -3.732,-7.327 h1.5
Mechanical 15:
  lines w0.1: -0.354,-0.354 0,0 ; -0.354,0.354 0,0 ; 0.354,-0.354 0,0 ; 0.354,0.354 0,0
3D body "WURTH_692141030100.stp": height 16.11, standoff -3.51, extent -7.795,-16.13 7.795,3.57

## 3.0_a_smd_horizontal_male [mm]
pads (13):
  rect 0.7x2.2 smd mask+0.05: 1(-5,-0.5) 2(-3,-0.5) 3(-1,-0.5) 4(1,-0.5) 5(2,-0.5) 6(0,-0.5) 7(-2,-0.5) 8(-4,-0.5) 9(-6,-0.5)
  oval 3.2x3.6 hole 2.5: 10(-7.9,2.2) 10(3.9,2.2)
  round 1.2 hole 1.2 unplated: ""(-4.25,2.2) ""(0.25,2.2)
Top Overlay:
  lines w0.2: -7.9,4.225 -7.9,4.6 3.9,4.6 3.9,4.225 ; -6.5,-2 2.5,-2
Mechanical 14:
  lines w0.1: -8.001,-0.762 -8.001,20 4,20 4,-0.762 -8.001,-0.762
  text ".Designator" at -5.842,3.429 h1.5
  text ".Comment" at -4.6,6.4 h0.7
3D body "692112030100.stp": height 1.95, standoff -2.55, extent -8,-0.75 4,20

## 3.0_a_thd_horizontal_female [mm] "TYCO_1932258-1"
height 6.99
pads (11):
  round 1.2 hole 0.7: 1(-3.5,-0.75) 2(-1,-0.75) 3(1,-0.75) 4(3.5,-0.75) 5(4,0.75) 6(2,0.75) 7(0,0.75) 8(-2,0.75) 9(-4,0.75)
  round 3 hole 2.3: 10(-6.57,-2.75) 10(6.57,-2.75)
Top Overlay:
  circle w0.3: c-7.677,-0.736 r0.15
  lines w0.2: -6.55,-13.75 -5.83,-13.75 -5.83,-14.53 5.83,-14.53 5.83,-13.75 6.55,-13.75 ; -6.55,-4.925 -6.55,-13.93 cw(c-6.85,-13.93) -6.85,-14.23 -7.315,-14.23 -7.315,-14.53 -6.85,-14.53 ccw(c-6.85,-13.93) -6.25,-13.93 -6.25,-13.75 ; -6.55,-0.575 -6.55,1.95 6.55,1.95 6.55,-0.575 ; -5.83,-14.23 5.742,-14.23 ; -1.365,-7.17 -1.922,-12.774 cw(c-3,-12.667) -4.078,-12.774 -4.635,-7.17 cw(c-4.436,-7.15) -4.237,-7.132 -3.742,-12.315 ccw(c-2.996,-12) -2.263,-12.346 -1.759,-7.114 cw(c-1.563,-7.149) -1.365,-7.169 ; -0.992,-11.931 ccw(c-0.791,-11.948) -0.591,-11.969 ; -0.992,-11.931 -0.681,-8.423 cw(c-0.382,-8.45) -0.382,-8.15 0.382,-8.15 cw(c0.382,-8.45) 0.681,-8.423 0.992,-11.931 ; -0.592,-11.969 -0.273,-8.931 cw(c-0.094,-8.986) -0.074,-8.8 0.074,-8.8 cw(c0.094,-8.986) 0.273,-8.931 0.592,-11.969 ; 0.591,-11.969 ccw(c0.791,-11.948) 0.992,-11.931 ; 4.635,-7.17 4.078,-12.774 cw(c3,-12.667) 1.922,-12.774 1.365,-7.17 cw(c1.564,-7.15) 1.763,-7.132 2.258,-12.315 ccw(c3.004,-12) 3.737,-12.346 4.241,-7.114 cw(c4.437,-7.149) 4.635,-7.169 ; 6.25,-13.75 6.25,-13.93 ccw(c6.85,-13.93) 6.85,-14.53 7.315,-14.53 7.315,-14.23 6.85,-14.23 cw(c6.85,-13.93) 6.55,-13.93 6.55,-4.925
Mechanical 14:
  circle w0.1: c-5,-0.75 r0.5
  lines w0.1: -6.782,-3.641 -6.55,-3.719 ; -6.782,-1.859 -6.55,-1.781 ; -6.55,-13.75 -5.83,-13.75 -5.83,-14.53 5.83,-14.53 5.83,-13.75 6.55,-13.75 ; -6.25,-13.75 -6.25,-13.93 cw(c-6.85,-13.93) -6.85,-14.53 -7.315,-14.53 -7.315,-14.23 -6.85,-14.23 ccw(c-6.85,-13.93) -6.55,-13.93 -6.55,1.95 6.55,1.95 6.55,-13.93 ccw(c6.85,-13.93) 6.85,-14.23 7.315,-14.23 7.315,-14.53 6.85,-14.53 cw(c6.85,-13.93) 6.25,-13.93 6.25,-13.75 ; -5.83,-14.23 5.742,-14.23 ; -1.365,-7.17 -1.922,-12.774 cw(c-3,-12.667) -4.078,-12.774 -4.635,-7.17 cw(c-4.436,-7.15) -4.237,-7.132 -3.742,-12.315 ccw(c-2.996,-12) -2.263,-12.346 -1.759,-7.114 cw(c-1.563,-7.149) -1.365,-7.169 ; -0.992,-11.931 ccw(c-0.791,-11.948) -0.591,-11.969 ; -0.992,-11.931 -0.681,-8.423 cw(c-0.382,-8.45) -0.382,-8.15 0.382,-8.15 cw(c0.382,-8.45) 0.681,-8.423 0.992,-11.931 ; -0.592,-11.969 -0.273,-8.931 cw(c-0.094,-8.986) -0.074,-8.8 0.074,-8.8 cw(c0.094,-8.986) 0.273,-8.931 0.592,-11.969 ; 0.591,-11.969 ccw(c0.791,-11.948) 0.992,-11.931 ; 4.635,-7.17 4.078,-12.774 cw(c3,-12.667) 1.922,-12.774 1.365,-7.17 cw(c1.564,-7.15) 1.763,-7.132 2.258,-12.315 ccw(c3.004,-12) 3.737,-12.346 4.241,-7.114 cw(c4.437,-7.149) 4.635,-7.169 ; 6.55,-3.719 6.782,-3.641 7.826,-3.493 8.05,-3.417 8.05,-2.083 7.826,-2.007 6.782,-1.859 6.55,-1.781
  text ".Designator" at -2.159,-5.334 h1.5
  text ".Comment" at -2,-10 h0.7
3D body "TYCO_1932258-1.stp": height 7.76, standoff -3.7, extent -8.048,-14.53 8.045,1.95

## 3.0_a_thd_horizontal_female_2 [mm] "MOLEX_483930003"
height 6.99
pads (13):
  round 1.2 hole 0.7: 1(-3.5,-0.75) 2(-1,-0.75) 3(1,-0.75) 4(3.5,-0.75) 5(4,0.75) 6(2,0.75) 7(0,0.75) 8(-2,0.75) 9(-4,0.75)
  oval 1.2x2 hole 0.6 slot 1.4 at 90 deg: 10(-6.4,-8.5) 10(6.4,-8.5)
  oval 1.2x2.3 hole 0.6 slot 1.7 at 90 deg: 10(-6.4,0) 10(6.4,0)
Top Overlay:
  lines w0.15: -7,-1.3 -7,-1.85 -6.6,-1.85 -6.6,-7.2 ; -7,1.35 cw(c-6.5,1.35) -6.5,1.85 6.5,1.85 cw(c6.5,1.35) 7,1.35 ; -6.6,-9.8 -6.6,-12.6 6.6,-12.6 6.6,-9.8 ; 6.6,-7.2 6.6,-1.85 7,-1.85 7,-1.3
Mechanical 14:
  circle w0.1: c-5,-0.75 r0.5
  lines w0.1: 6.6,-1.9 6.6,-12.6 -6.6,-12.6 -6.6,-1.85 -7,-1.85 -7,1.35 cw(c-6.5,1.35) -6.5,1.85 6.5,1.85 cw(c6.5,1.35) 7,1.35 7,-1.85 6.6,-1.85
  text ".Comment" at -4.4,-8.6 h0.7
  text ".Designator" at -2.159,-5.334 h1.5
3D body "483930003.stp": height 7, standoff -1.04, extent -6.9,-12.5 6.9,1.75

## 3.0_b_thd_horizontal_female [mm] "SAMTEC_USB3-B-S-F-TH"
height 12.9
pads (11):
  round 1.6 hole 0.9: 1(1.25,1) 2(-1.25,1) 3(-1.25,-1) 4(1.25,-1)
  round 1.4 hole 0.7: 5(-4.25,3) 6(-2.5,3) 7(0,3) 8(2.5,3) 9(4.25,3)
  round 3 hole 2.3: 10(-6.02,-3.71) 10(6.02,-3.71)
Top Overlay:
  lines w0.2: -6,-5.61 -6,-13.415 ; -6,-1.81 -6,4.235 6,4.235 6,-1.81 ; -6,3.935 -4.829,3.935 ; -5.7,-13.415 ccw(c-5.4,-13.415) -5.4,-13.715 -3.45,-13.715 ; -5.5,3.935 -5.5,4.235 ; -5.4,-13.415 -5.4,-5.506 ; -5.4,-1.914 -5.4,3.935 ; -5.2,-13.715 -5.2,-13.415 -6,-13.415 ; -2.9,-14.015 -5.4,-14.015 cw(c-5.4,-13.415) -6,-13.415 ; -2.9,-13.953 ccw(c-2.619,-13.932) -2.6,-14.213 ; -2.9,-13.79 2.9,-13.785 ; -2.9,-13.714 -3.45,-13.715 ; -2.9,-13.635 2.9,-13.635 ; 2.6,-14.213 ccw(c2.619,-13.932) 2.9,-13.953 ; 2.9,-14.015 5.4,-14.015 ccw(c5.4,-13.415) 6,-13.415 ; 2.9,-13.714 3.45,-13.715 ; 4.829,3.935 6,3.935 ; 5.19,-13.715 5.2,-13.415 6,-13.415 ; 5.4,-13.415 5.4,-5.506 ; 5.4,-1.914 5.4,3.935 ; 5.5,3.935 5.5,4.235 ; 5.7,-13.415 cw(c5.4,-13.415) 5.4,-13.715 3.45,-13.715 ; 6,-5.61 6,-13.415 ; -3.45,-13.715 ccw(c-3.45,-13.565) -3.3,-13.565 cw(c-3.15,-13.565) -3.15,-13.415 -3.05,-13.415 cw(c-3.05,-13.565) -2.9,-13.565 -2.9,-14.103 ccw(c-2.619,-14.082) -2.6,-14.363 ; -2.6,-14.363 -2.6,-14.213 ; -2.6,-14.363 2.6,-14.363 ; -2.6,-14.213 2.6,-14.214 2.6,-14.363 ; 2.6,-14.363 ccw(c2.619,-14.082) 2.9,-14.103 2.9,-13.953 ; 2.9,-13.953 2.9,-13.565 cw(c3.05,-13.565) 3.05,-13.415 3.15,-13.415 cw(c3.15,-13.565) 3.3,-13.565 ccw(c3.45,-13.565) 3.45,-13.715
Mechanical 14:
  lines w0.1: -6,-5.015 ccw(c-6.093,-5.018) -6.026,-4.953 -7.201,-4.348 -7.252,-4.326 -7.252,-3.104 -7.201,-3.082 ; -6,-2.415 cw(c-6.093,-2.412) -6.026,-2.477 ; -6,3.935 6,3.935 ; -5.7,-13.415 ccw(c-5.4,-13.415) -5.4,-13.715 -3.45,-13.715 ; -5.5,3.935 -5.5,4.235 ; -5.4,-13.415 -5.4,3.935 ; -5.2,-13.715 -5.2,-13.415 -6,-13.415 ; -3.8,3.935 -3.8,4.235 ; -3.5,3.935 -3.5,4.235 ; -2.9,-14.015 -5.4,-14.015 cw(c-5.4,-13.415) -6,-13.415 ; -2.9,-13.953 ccw(c-2.619,-13.932) -2.6,-14.213 ; -2.9,-13.79 2.9,-13.785 ; -2.9,-13.714 -3.45,-13.715 ; -2.9,-13.635 2.9,-13.635 ; 2.6,-14.213 ccw(c2.619,-13.932) 2.9,-13.953 ; 2.9,-14.015 5.4,-14.015 ccw(c5.4,-13.415) 6,-13.415 ; 2.9,-13.714 3.45,-13.715 ; 3.5,3.935 3.5,4.235 ; 3.8,3.935 3.8,4.235 ; 5.19,-13.715 5.2,-13.415 6,-13.415 ; 5.4,-13.415 5.4,3.935 ; 5.5,3.935 5.5,4.235 ; 5.7,-13.415 cw(c5.4,-13.415) 5.4,-13.715 3.45,-13.715 ; 6,-5.015 cw(c6.093,-5.018) 6.026,-4.953 7.201,-4.348 7.252,-4.326 7.252,-3.104 7.201,-3.082 ; 6,-2.415 ccw(c6.093,-2.412) 6.026,-2.477 ; -7.201,-3.082 -6.026,-2.477 ; -7.201,-3.082 -6.026,-2.477 ; -6,-13.415 -6,4.235 6,4.235 6,-13.415 ; -3.45,-13.715 ccw(c-3.45,-13.565) -3.3,-13.565 cw(c-3.15,-13.565) -3.15,-13.415 -3.05,-13.415 cw(c-3.05,-13.565) -2.9,-13.565 -2.9,-14.103 ccw(c-2.619,-14.082) -2.6,-14.363 ; -2.6,-14.363 -2.6,-14.213 ; -2.6,-14.363 2.6,-14.363 ; -2.6,-14.213 2.6,-14.214 2.6,-14.363 ; 2.6,-14.363 ccw(c2.619,-14.082) 2.9,-14.103 2.9,-13.953 ; 2.9,-13.953 2.9,-13.565 cw(c3.05,-13.565) 3.05,-13.415 3.15,-13.415 cw(c3.15,-13.565) 3.3,-13.565 ccw(c3.45,-13.565) 3.45,-13.715 ; 6.026,-2.477 7.201,-3.082 ; 6.026,-2.477 7.201,-3.082
  text ".Designator" at -3.175,-4.699 h1.5
  text ".Comment" at -2.3,-9.1 h0.7
Mechanical 15:
  lines w0.1: -0.5,0 0,0 ; 0,-0.5 0,0 ; 0,0.5 0,0 ; 0.5,0 0,0
3D body "SAMTEC_USB3-B-S-F-TH.stp": height 13.19, standoff -3.04, extent -7.252,-14.363 7.252,4.235

## MOLEX_47346-0001 [mm] "CONN RCPT 5POS MICRO USB R/A"
height 2.35
pads (13):
  rect 0.4x1.35 smd: 1(-1.3,0) 2(-0.65,0) 3(0,0) 4(0.65,0) 5(1.3,0)
  rrect50% 2.375x1.9 smd: 5(-3,-2.7) 5(3,-2.7)
  rrect50% 1.475x2.1 smd: 5(-2.55,-0.375) 5(2.55,-0.375)
  rect 1.175x1.9 smd: 5(-2.4,-2.7) 5(-0.85,-2.7) 5(0.85,-2.7) 5(2.4,-2.7)
Top Overlay:
  lines w0.2: -3.75,-4.825 -3.75,-4.1 ; -3.75,-1.4 -3.75,0.175 ; -3.74,-4.825 3.75,-4.825 3.75,-4.1 ; 3.75,-1.4 3.75,0.175
Mechanical 14:
  circle w0.25: c1.35,1.15 r0.125
  lines w0.1: -3.75,-4.825 -3.75,0.175 3.75,0.175 3.75,-4.825 -3.74,-4.825 ; -2.45,0.175 -2.45,0.453 cw(c-2.291,-0.138) -2.3,0.474 -2.15,0.474 cw(c-2.159,-0.138) -2,0.453 -2,0.365 ccw(c-1.81,0.891) -1.845,0.333 -0.9,0.279 -0.9,0.272 ccw(c-0.741,0.862) -0.75,0.251 -0.6,0.251 ccw(c-0.606,0.659) -0.5,0.265 0.5,0.265 ccw(c0.606,0.659) 0.6,0.251 0.75,0.251 ccw(c0.741,0.862) 0.9,0.272 0.9,0.279 1.845,0.333 ccw(c1.81,0.891) 2,0.365 2,0.453 cw(c2.159,-0.138) 2.15,0.474 2.3,0.474 cw(c2.291,-0.138) 2.45,0.453 2.45,0.175
  text ".Designator" at -1,-2.4 h1
Mechanical 15:
  lines w0.05: -4.2,-5 4.2,-5 4.2,0.9 -4.2,0.9 -4.2,-5
  lines w0.1: -3.7,-5.5 3.8,-5.5 ; -0.5,0 0,0 ; 0,-0.5 0,0 ; 0,0.5 0,0 ; 0.5,0 0,0
3D body "473460001.stp": height 2.67, standoff -0.27, extent -3.99,-5.23 3.99,0.2